# Altium schematic symbol library Battery_Management.SchLib: 122 symbols (part 1 of 2)
Pins are listed as number, name and electrical type; pins without a type are passive.

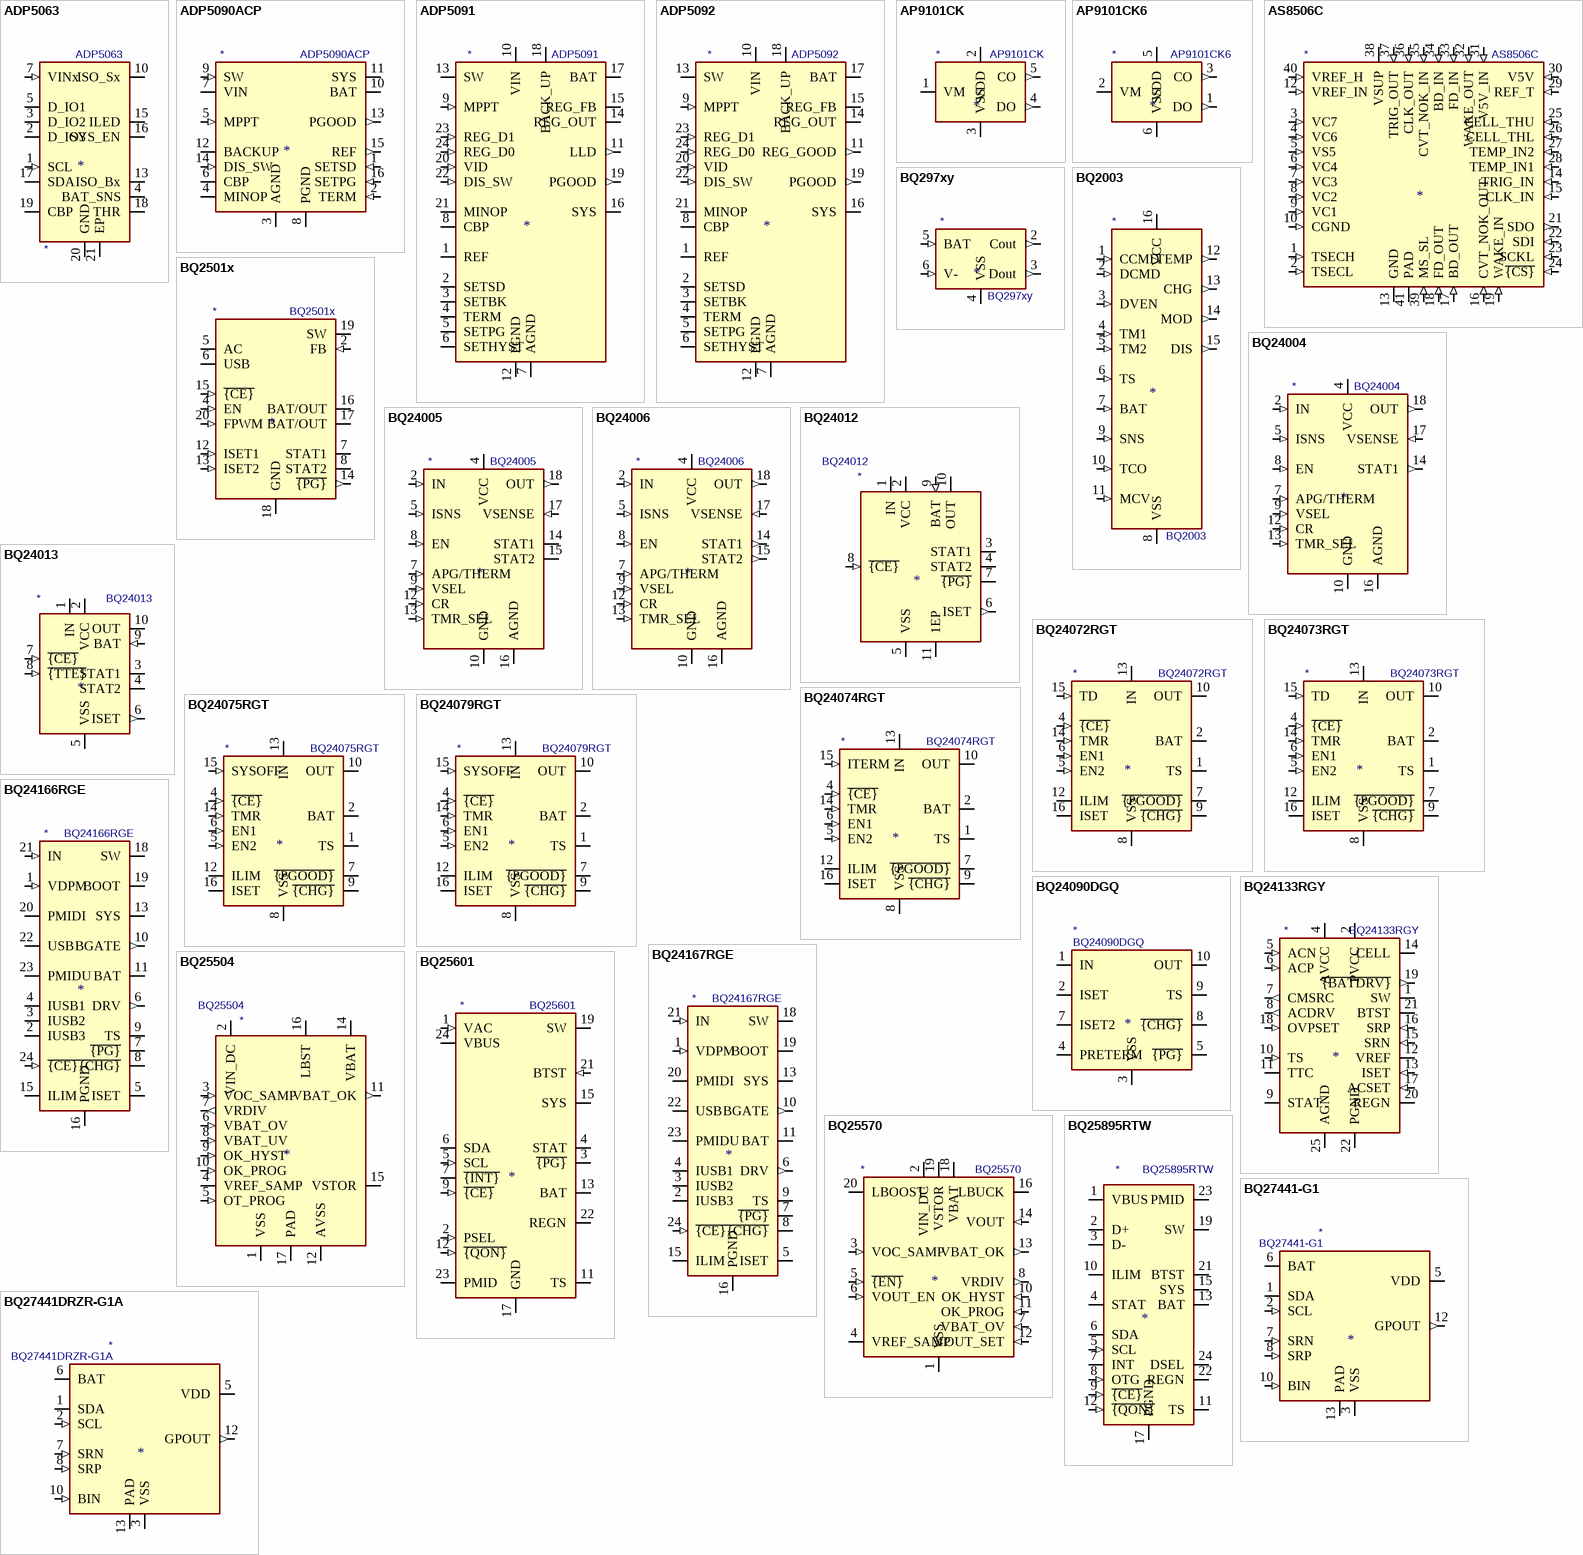
[diagram p0: symbols ADP5063 to BQ27441DRZR-G1A]

## ADP5063
designator *  value ADP5063
ki_keywords: LiFePo4 Battery USB PMIC; ki_description: Linear LiFePO4 Battery Charger with Power Path and USB Compatibility, LFCSP; ki_fp_filters: *QFN*1EP*4x4mm*P0.5mm*; Footprint: Package_DFN_QFN:QFN-20-1EP_4x4mm_P0.5mm_EP2.5x2.5mm; Supplier: https://www.analog.com/media/en/technical-documentation/data-sheets/ADP5063.pdf
footprint QFN-20-1EP_4x4mm_P0.5mm_EP2.5x2.5mm
pins: 1 SCL (in), 2 D_IO3 (io), 3 D_IO2 (io), 4 BAT_SNS, 5 D_IO1 (io), 6 VINx (in) hidden, 7 VINx (in), 8 VINx (in) hidden, 9 ISO_Sx hidden, 10 ISO_Sx (power), 11 ISO_Sx hidden, 12 ISO_Bx hidden, 13 ISO_Bx, 14 ISO_Bx hidden, 15 ILED (oc), 16 SYS_EN (oc), 17 SDA (io), 18 THR, 19 CBP, 20 GND (power), 21 EP

## ADP5090ACP
designator *  value ADP5090ACP
ki_keywords: boost regulator MPPT charge; ki_description: Ultralow Power Boost Regulator with MPPT and Charge Management, LFCSP-16; ki_fp_filters: LFCSP*1EP*3x3mm*P0.5mm*; Footprint: Package_CSP:LFCSP-16-1EP_3x3mm_P0.5mm_EP1.7x1.7mm; Supplier: https://www.analog.com/media/en/technical-documentation/data-sheets/ADP5090.pdf
footprint LFCSP-16-1EP_3x3mm_P0.5mm_EP1.7x1.7mm
pins: 1 SETSD (in), 2 TERM (in), 3 AGND (power), 4 MINOP, 5 MPPT (in), 6 CBP, 7 VIN (power), 8 PGND (power), 9 SW (in), 10 BAT (power), 11 SYS (power), 12 BACKUP, 13 PGOOD (out), 14 DIS_SW (in), 15 REF (out), 16 SETPG (in), 17 AGND hidden

## ADP5091
designator *  value ADP5091
ki_keywords: energy harvester; ki_description: Ultralow Power Energy Harvester PMUs with MPPT and Charge Management, LFCSP-24; ki_fp_filters: LFCSP*1EP*4x4mm*P0.5mm*; Footprint: Package_CSP:LFCSP-24-1EP_4x4mm_P0.5mm_EP2.3x2.3mm; Supplier: https://www.analog.com/media/en/technical-documentation/data-sheets/ADP5091-5092.pdf
footprint LFCSP-24-1EP_4x4mm_P0.5mm_EP2.3x2.3mm
pins: 1 REF, 2 SETSD, 3 SETBK, 4 TERM, 5 SETPG, 6 SETHYST, 7 AGND (power), 8 CBP, 9 MPPT (in), 10 VIN (power), 11 LLD (out), 12 PGND (power), 13 SW (power), 14 REG_OUT (power), 15 REG_FB (power), 16 SYS (power), 17 BAT (power), 18 BACK_UP (power), 19 PGOOD (out), 20 VID (in), 21 MINOP, 22 DIS_SW (in), 23 REG_D1 (in), 24 REG_D0 (in), 25 AGND hidden

## ADP5092
designator *  value ADP5092
ki_keywords: energy harvester; ki_description: Ultralow Power Energy Harvester PMUs with MPPT and Charge Management, LFCSP-24; ki_fp_filters: LFCSP*1EP*4x4mm*P0.5mm*; Footprint: Package_CSP:LFCSP-24-1EP_4x4mm_P0.5mm_EP2.3x2.3mm; Supplier: https://www.analog.com/media/en/technical-documentation/data-sheets/ADP5091-5092.pdf
footprint LFCSP-24-1EP_4x4mm_P0.5mm_EP2.3x2.3mm
pins: 1 REF, 2 SETSD, 3 SETBK, 4 TERM, 5 SETPG, 6 SETHYST, 7 AGND (power), 8 CBP, 9 MPPT (in), 10 VIN (power), 11 REG_GOOD (out), 12 PGND (power), 13 SW (power), 14 REG_OUT (power), 15 REG_FB (power), 16 SYS (power), 17 BAT (power), 18 BACK_UP (power), 19 PGOOD (out), 20 VID (in), 21 MINOP, 22 DIS_SW (in), 23 REG_D1 (in), 24 REG_D0 (in), 25 AGND hidden

## AP9101CK
designator *  value AP9101CK
ki_keywords: battery protection li-ion li-po; ki_description: Li+ Battery Protection IC for Single Cell Pack, SOT-23-5; ki_fp_filters: SOT?23*; Footprint: Package_TO_SOT_SMD:SOT-23-5; Supplier: https://www.diodes.com/assets/Datasheets/AP9101C.pdf
footprint SOT-23-5
pins: 1 VM, 2 VDD (power), 3 VSS (power), 4 DO (out), 5 CO (out)

## AP9101CK6
designator *  value AP9101CK6
ki_keywords: battery protection li-ion li-po; ki_description: Li+ Battery Protection IC for Single Cell Pack, SOT-23-6; ki_fp_filters: SOT?23*; Footprint: Package_TO_SOT_SMD:SOT-23-6; Supplier: https://www.diodes.com/assets/Datasheets/AP9101C.pdf
footprint SOT-23-6
pins: 1 DO (out), 2 VM, 3 CO (out), 4 NC (in) hidden, 5 VDD (power), 6 VSS (power)

## AS8506C
designator *  value AS8506C
ki_keywords: battery balance lithium charge afe; ki_description: Stackable cell monitor, cell balancer, 3-7 Cells, SPI Interface; ki_fp_filters: QFN*6x6mm*P0.5mm*; Footprint: Package_DFN_QFN:QFN-40-1EP_6x6mm_P0.5mm_EP4.6x4.6mm; Supplier: http://ams.com/eng/content/download/476603/1402377/252935
footprint QFN-40-1EP_6x6mm_P0.5mm_EP4.6x4.6mm
pins: 1 TSECH (in), 2 TSECL (in), 3 VC7 (in), 4 VC6 (in), 5 VS5 (in), 6 VC4 (in), 7 VC3 (in), 8 VC2 (in), 9 VC1 (in), 10 CGND (in), 11 NC (in) hidden, 12 VREF_IN (in), 13 GND (power), 14 TRIG_IN (in), 15 CLK_IN (in), 16 CVT_NOK_OUT (in), 17 BD_OUT (in), 18 FD_OUT (in), 19 WAKE_IN (in), 20 NC_T (in) hidden, 21 SDO (out), 22 SDI (in), 23 SCKL (in), 24 ~{{CS}} (in), 25 CELL_THU (in), 26 CELL_THL (in), 27 TEMP_IN2 (in), 28 TEMP_IN1 (in), 29 REF_T (in), 30 V5V (in), 31 V5V_IN (in), 32 WAKE_OUT (in), 33 FD_IN (in), 34 BD_IN (in), 35 CVT_NOK_IN (in), 36 CLK_OUT (in), 37 TRIG_OUT (in), 38 VSUP (power), 39 MS_SL (in), 40 VREF_H (in), 41 PAD (power)

## BQ297xy
designator *  value BQ297xy
ki_keywords: protection Li-Ion Li-Pol; ki_description: Voltage and Current Protection for Single-Cell Li-Ion and Li-Polymer Batteries; ki_fp_filters: WSON*1.5x1.5mm*P0.5mm*; Footprint: Package_SON:WSON-6_1.5x1.5mm_P0.5mm; Supplier: http://www.ti.com/lit/ds/symlink/bq2970.pdf
footprint WSON-6_1.5x1.5mm_P0.5mm
pins: 1 NC (in) hidden, 2 Cout (out), 3 Dout (out), 4 VSS (power), 5 BAT (in), 6 V- (in)

## BQ2003
designator *  value BQ2003
ki_keywords: battery nickel cadmium metal hydride; ki_description: Standalone switchmode NiCd/NiMH battery charger, 2-4 cells, negative dV and dT/dt termination; ki_fp_filters: DIP*W7.62mm* SOIC*7.5x10.3mm*P1.27mm*; Supplier: http://www.ti.com/lit/ds/symlink/bq2003.pdf
pins: 1 CCMD (in), 2 DCMD (in), 3 DVEN (in), 4 TM1 (in), 5 TM2 (in), 6 TS (in), 7 BAT (in), 8 VSS (power), 9 SNS (in), 10 TCO (in), 11 MCV (in), 12 TEMP (out), 13 CHG (out), 14 MOD (out), 15 DIS (out), 16 VCC (power)

## BQ2501x
designator *  value BQ2501x
ki_keywords: Li-ion buck; ki_description: 500mA Li-Ion Charger w/Integrated 150mA Synchronous Buck Converter, QFN-14; ki_fp_filters: Texas?VQFN?RHL*; Footprint: Package_DFN_QFN:Texas_VQFN-RHL-20_ThermalVias; Supplier: http://www.ti.com/lit/ds/symlink/bq25010.pdf
footprint Texas_VQFN-RHL-20_ThermalVias
pins: 1 NC (in) hidden, 2 FB (in), 3 GND hidden, 4 EN (in), 5 AC (power), 6 USB (power), 7 STAT1 (oc), 8 STAT2 (oc), 9 GND hidden, 10 NC (in) hidden, 11 NC (in) hidden, 12 ISET1 (in), 13 ISET2 (in), 14 ~{{PG}} (out), 15 ~{{CE}} (in), 16 BAT/OUT (power), 17 BAT/OUT (power), 18 GND (power), 19 SW (power), 20 FPWM (in), 21 GND hidden

## BQ24004
designator *  value BQ24004
ki_keywords: 2-Cell Li-Ion Charge; ki_description: 2-Cell Li-Ion Charge Management IC, HTSSOP-20; ki_fp_filters: HTSSOP*1EP*4.4x6.5mm*P0.65mm*; Footprint: Package_SO:HTSSOP-20-1EP_4.4x6.5mm_P0.65mm_EP3.4x6.5mm_Mask2.4x3.7mm; Supplier: http://www.ti.com/lit/ds/symlink/bq24006.pdf
footprint HTSSOP-20-1EP_4.4x6.5mm_P0.65mm_EP3.4x6.5mm_Mask2.4x3.7mm
pins: 1 N/C (in) hidden, 2 IN (in), 3 IN (in) hidden, 4 VCC (power), 5 ISNS (in), 6 N/C (in) hidden, 7 APG/THERM (in), 8 EN (in), 9 VSEL (in), 10 GND (power), 11 N/C (in) hidden, 12 CR (in), 13 TMR_SEL (in), 14 STAT1 (out), 15 N/C (in) hidden, 16 AGND (power), 17 VSENSE (in), 18 OUT (out), 19 OUT hidden, 20 N/C (in) hidden, 21 GND hidden

## BQ24005
designator *  value BQ24005
ki_keywords: 2-Cell Li-Ion Charge; ki_description: 2-Cell Li-Ion Charge Management IC, HTSSOP-20; ki_fp_filters: HTSSOP*1EP*4.4x6.5mm*P0.65mm*; Footprint: Package_SO:HTSSOP-20-1EP_4.4x6.5mm_P0.65mm_EP3.4x6.5mm_Mask2.4x3.7mm; Supplier: http://www.ti.com/lit/ds/symlink/bq24006.pdf
footprint HTSSOP-20-1EP_4.4x6.5mm_P0.65mm_EP3.4x6.5mm_Mask2.4x3.7mm
pins: 1 N/C (in) hidden, 2 IN (in), 3 IN (in) hidden, 4 VCC (power), 5 ISNS (in), 6 N/C (in) hidden, 7 APG/THERM (in), 8 EN (in), 9 VSEL (in), 10 GND (power), 11 N/C (in) hidden, 12 CR (in), 13 TMR_SEL (in), 14 STAT1 (oc), 15 STAT2 (oc), 16 AGND (power), 17 VSENSE (in), 18 OUT (out), 19 OUT hidden, 20 N/C (in) hidden, 21 GND hidden

## BQ24006
designator *  value BQ24006
ki_keywords: 2-Cell Li-Ion Charge; ki_description: 2-Cell Li-Ion Charge Management IC, HTSSOP-20; ki_fp_filters: HTSSOP*1EP*4.4x6.5mm*P0.65mm*; Footprint: Package_SO:HTSSOP-20-1EP_4.4x6.5mm_P0.65mm_EP3.4x6.5mm_Mask2.4x3.7mm; Supplier: http://www.ti.com/lit/ds/symlink/bq24006.pdf
footprint HTSSOP-20-1EP_4.4x6.5mm_P0.65mm_EP3.4x6.5mm_Mask2.4x3.7mm
pins: 1 N/C (in) hidden, 2 IN (in), 3 IN (in) hidden, 4 VCC (power), 5 ISNS (in), 6 N/C (in) hidden, 7 APG/THERM (in), 8 EN (in), 9 VSEL (in), 10 GND (power), 11 N/C (in) hidden, 12 CR (in), 13 TMR_SEL (in), 14 STAT1 (out), 15 STAT2 (out), 16 AGND (power), 17 VSENSE (in), 18 OUT (out), 19 OUT hidden, 20 N/C (in) hidden, 21 GND hidden

## BQ24012
designator *  value BQ24012
ki_keywords: Batter, Charger, Li-Ion; ki_description: Single-Chip Li-Ion Charge Management IC, DFN-10; ki_fp_filters: VSON*1EP*3x3mm*P0.5mm*; Footprint: Package_SON:VSON-10-1EP_3x3mm_P0.5mm_EP1.65x2.4mm_ThermalVias; Supplier: http://www.ti.com/lit/ds/symlink/bq24012.pdf
footprint VSON-10-1EP_3x3mm_P0.5mm_EP1.65x2.4mm_ThermalVias
pins: 1 IN (power), 2 VCC (power), 3 STAT1 (oc), 4 STAT2 (oc), 5 VSS (power), 6 ISET (out), 7 ~{{PG}} (oc), 8 ~{{CE}} (in), 9 BAT (in), 10 OUT (power), 11 1EP

## BQ24013
designator *  value BQ24013
ki_keywords: Batter Charger Li-Ion; ki_description: Single-Chip Li-Ion Charge Management IC, VSON-10; ki_fp_filters: Texas*DRC0010J*; Footprint: Package_SON:Texas_DRC0010J_ThermalVias; Supplier: http://www.ti.com/lit/ds/symlink/bq24012.pdf
footprint Texas_DRC0010J_ThermalVias
pins: 1 IN (power), 2 VCC (power), 3 STAT1 (oc), 4 STAT2 (oc), 5 VSS (power), 6 ISET (out), 7 ~{{CE}} (in), 8 ~{{TTE}} (in), 9 BAT (in), 10 OUT (power), 11 VSS hidden

## BQ24072RGT
designator *  value BQ24072RGT
ki_keywords: USB Charge; ki_description: USB-Friendly Li-Ion Battery Charger and Power-Path Management, VQFN-16; ki_fp_filters: VQFN*1EP*3x3mm*P0.5mm*; Footprint: Package_DFN_QFN:VQFN-16-1EP_3x3mm_P0.5mm_EP1.6x1.6mm; Supplier: http://www.ti.com/lit/ds/symlink/bq24072.pdf
footprint VQFN-16-1EP_3x3mm_P0.5mm_EP1.6x1.6mm
pins: 1 TS, 2 BAT (power), 3 BAT hidden, 4 ~{{CE}} (in), 5 EN2 (in), 6 EN1 (in), 7 ~{{PGOOD}} (oc), 8 VSS (power), 9 ~{{CHG}} (oc), 10 OUT (power), 11 OUT hidden, 12 ILIM, 13 IN (power), 14 TMR (in), 15 TD (in), 16 ISET, 17 VSS hidden

## BQ24073RGT
designator *  value BQ24073RGT
ki_keywords: USB Charge; ki_description: USB-Friendly Li-Ion Battery Charger and Power-Path Management, VQFN-16; ki_fp_filters: VQFN*1EP*3x3mm*P0.5mm*; Footprint: Package_DFN_QFN:VQFN-16-1EP_3x3mm_P0.5mm_EP1.6x1.6mm; Supplier: http://www.ti.com/lit/ds/symlink/bq24073.pdf
footprint VQFN-16-1EP_3x3mm_P0.5mm_EP1.6x1.6mm
pins: 1 TS, 2 BAT (power), 3 BAT hidden, 4 ~{{CE}} (in), 5 EN2 (in), 6 EN1 (in), 7 ~{{PGOOD}} (oc), 8 VSS (power), 9 ~{{CHG}} (oc), 10 OUT (power), 11 OUT hidden, 12 ILIM, 13 IN (power), 14 TMR (in), 15 TD (in), 16 ISET, 17 VSS hidden

## BQ24074RGT
designator *  value BQ24074RGT
ki_keywords: USB Charge; ki_description: USB-Friendly Li-Ion Battery Charger and Power-Path Management, VQFN-16; ki_fp_filters: VQFN*1EP*3x3mm*P0.5mm*; Footprint: Package_DFN_QFN:VQFN-16-1EP_3x3mm_P0.5mm_EP1.6x1.6mm; Supplier: http://www.ti.com/lit/ds/symlink/bq24074.pdf
footprint VQFN-16-1EP_3x3mm_P0.5mm_EP1.6x1.6mm
pins: 1 TS, 2 BAT (power), 3 BAT hidden, 4 ~{{CE}} (in), 5 EN2 (in), 6 EN1 (in), 7 ~{{PGOOD}} (oc), 8 VSS (power), 9 ~{{CHG}} (oc), 10 OUT (power), 11 OUT hidden, 12 ILIM, 13 IN (power), 14 TMR (in), 15 ITERM (in), 16 ISET, 17 VSS hidden

## BQ24075RGT
designator *  value BQ24075RGT
ki_keywords: USB Charge; ki_description: USB-Friendly Li-Ion Battery Charger and Power-Path Management, VQFN-16; ki_fp_filters: VQFN*1EP*3x3mm*P0.5mm*; Footprint: Package_DFN_QFN:VQFN-16-1EP_3x3mm_P0.5mm_EP1.6x1.6mm; Supplier: http://www.ti.com/lit/ds/symlink/bq24075.pdf
footprint VQFN-16-1EP_3x3mm_P0.5mm_EP1.6x1.6mm
pins: 1 TS, 2 BAT (power), 3 BAT hidden, 4 ~{{CE}} (in), 5 EN2 (in), 6 EN1 (in), 7 ~{{PGOOD}} (oc), 8 VSS (power), 9 ~{{CHG}} (oc), 10 OUT (power), 11 OUT hidden, 12 ILIM, 13 IN (power), 14 TMR (in), 15 SYSOFF (in), 16 ISET, 17 VSS hidden

## BQ24079RGT
designator *  value BQ24079RGT
ki_keywords: USB Charge; ki_description: USB-Friendly Li-Ion Battery Charger and Power-Path Management, VQFN-16; ki_fp_filters: VQFN*1EP*3x3mm*P0.5mm*; Footprint: Package_DFN_QFN:VQFN-16-1EP_3x3mm_P0.5mm_EP1.6x1.6mm; Supplier: http://www.ti.com/lit/ds/symlink/bq24079.pdf
footprint VQFN-16-1EP_3x3mm_P0.5mm_EP1.6x1.6mm
pins: 1 TS, 2 BAT (power), 3 BAT hidden, 4 ~{{CE}} (in), 5 EN2 (in), 6 EN1 (in), 7 ~{{PGOOD}} (oc), 8 VSS (power), 9 ~{{CHG}} (oc), 10 OUT (power), 11 OUT hidden, 12 ILIM, 13 IN (power), 14 TMR (in), 15 SYSOFF (in), 16 ISET, 17 VSS hidden

## BQ24090DGQ
designator *  value BQ24090DGQ
ki_keywords: battery charger singlecell li-ion li-poly, 1A; ki_description: 1A, Single-Input, SingleCell Li-Ion and Li-Pol BatteryCharger, HVSSOP-10; ki_fp_filters: HVSSOP*1EP*3x3mm*P0.5mm*; Footprint: Package_SO:HVSSOP-10-1EP_3x3mm_P0.5mm_EP1.57x1.88mm_ThermalVias; Supplier: http://www.ti.com/lit/ds/symlink/bq24090.pdf
footprint HVSSOP-10-1EP_3x3mm_P0.5mm_EP1.57x1.88mm_ThermalVias
pins: 1 IN (power), 2 ISET, 3 VSS (power), 4 PRETERM, 5 ~{{PG}} (oc), 6 NC (in) hidden, 7 ISET2, 8 ~{{CHG}} (oc), 9 TS, 10 OUT (power), 11 VSS hidden

## BQ24133RGY
designator *  value BQ24133RGY
ki_keywords: Battery, Charger, Li-Ion, Li-Poly; ki_description: Synchronous switched mode Li-Ion and Li-Polymer battery charger, integrated MOSFETs and power path selector, Texas R-PVQFN-N24; ki_fp_filters: Texas*RGY*R*PVQFN*N*; Footprint: Package_DFN_QFN:Texas_RGY_R-PVQFN-N24_EP2.05x3.1mm; Supplier: http://www.ti.com/lit/ds/symlink/bq24133.pdf
footprint Texas_RGY_R-PVQFN-N24_EP2.05x3.1mm
pins: 1 SW (power), 2 PVCC (power), 3 PVCC hidden, 4 AVCC (power), 5 ACN (in), 6 ACP (in), 7 CMSRC (out), 8 ACDRV (out), 9 STAT (oc), 10 TS (in), 11 TTC, 12 VREF (power), 13 ISET (in), 14 CELL, 15 SRN (in), 16 SRP (in), 17 ACSET (in), 18 OVPSET (in), 19 ~{{BATDRV}} (out), 20 REGN, 21 BTST, 22 PGND (power), 23 PGND hidden, 24 SW hidden, 25 AGND (power)

## BQ24166RGE
designator *  value BQ24166RGE
ki_keywords: Battery, Charger, Li-Ion, Li-Poly; ki_description: High efficiency switched mode Li-Ion and Li-Polymer battery charger, integrated MOSFETs, power path selector and standard temperature sensing, Texas R-RGE0024H; ki_fp_filters: Texas*RGE0024H*; Footprint: Package_DFN_QFN:Texas_RGE0024H_EP2.7x2.7mm; Supplier: https://www.ti.com/lit/ds/symlink/bq24166.pdf
footprint Texas_RGE0024H_EP2.7x2.7mm
pins: 1 VDPM (in), 2 IUSB3, 3 IUSB2, 4 IUSB1, 5 ISET, 6 DRV (out), 7 ~{{PG}} (oc), 8 ~{{CHG}} (oc), 9 TS, 10 BGATE (out), 11 BAT, 12 BAT hidden, 13 SYS (power), 14 SYS hidden, 15 ILIM, 16 PGND (power), 17 PGND hidden, 18 SW, 19 BOOT, 20 PMIDI, 21 IN (in), 22 USB (power), 23 PMIDU, 24 ~{{CE}} (in), 25 PGND hidden

## BQ24167RGE
designator *  value BQ24167RGE
ki_keywords: Battery, Charger, Li-Ion, Li-Poly; ki_description: High efficiency switched mode Li-Ion and Li-Polymer battery charger, integrated MOSFETs, power path selector and JEITA compatible temperature sensing, Texas R-RGE0024H; ki_fp_filters: Texas*RGE0024H*; Footprint: Package_DFN_QFN:Texas_RGE0024H_EP2.7x2.7mm; Supplier: https://www.ti.com/lit/ds/symlink/bq24166.pdf
footprint Texas_RGE0024H_EP2.7x2.7mm
pins: 1 VDPM (in), 2 IUSB3, 3 IUSB2, 4 IUSB1, 5 ISET, 6 DRV (out), 7 ~{{PG}} (oc), 8 ~{{CHG}} (oc), 9 TS, 10 BGATE (out), 11 BAT, 12 BAT hidden, 13 SYS (power), 14 SYS hidden, 15 ILIM, 16 PGND (power), 17 PGND hidden, 18 SW, 19 BOOT, 20 PMIDI, 21 IN (in), 22 USB (power), 23 PMIDU, 24 ~{{CE}} (in), 25 PGND hidden

## BQ25504
designator *  value BQ25504
ki_keywords: energy harvesting li-ion battery solar TEG; ki_description: Energy Harvesting Boost Converter with Battery Management, VQFN-16; ki_fp_filters: *QFN*3x3mm*P0.5mm*; Footprint: Package_DFN_QFN:QFN-16-1EP_3x3mm_P0.5mm_EP1.8x1.8mm; Supplier: http://www.ti.com/lit/ds/symlink/bq25504.pdf
footprint QFN-16-1EP_3x3mm_P0.5mm_EP1.8x1.8mm
pins: 1 VSS (power), 2 VIN_DC (power), 3 VOC_SAMP (in), 4 VREF_SAMP (io), 5 OT_PROG (in), 6 VBAT_OV (in), 7 VRDIV (out), 8 VBAT_UV (in), 9 OK_HYST (in), 10 OK_PROG (in), 11 VBAT_OK (out), 12 AVSS (power), 13 VSS hidden, 14 VBAT (power), 15 VSTOR (io), 16 LBST (io), 17 PAD

## BQ25570
designator *  value BQ25570
ki_keywords: harvester solar TEG charger li-on buck; ki_description: Nano Power Boost Charger and Buck Converter for Energy Harvester Powered Applications, QFN-20; ki_fp_filters: QFN*1EP*3.5x3.5mm*P0.5mm*; Footprint: Package_DFN_QFN:QFN-20-1EP_3.5x3.5mm_P0.5mm_EP2x2mm; Supplier: http://www.ti.com/lit/ds/symlink/bq25570.pdf
footprint QFN-20-1EP_3.5x3.5mm_P0.5mm_EP2x2mm
pins: 1 VSS (power), 2 VIN_DC (power), 3 VOC_SAMP (in), 4 VREF_SAMP, 5 ~{{EN}} (in), 6 VOUT_EN (in), 7 VBAT_OV (in), 8 VRDIV (out), 9 VSS hidden, 10 OK_HYST (in), 11 OK_PROG (in), 12 VOUT_SET (in), 13 VBAT_OK (out), 14 VOUT (in), 15 VSS hidden, 16 LBUCK, 17 VSS hidden, 18 VBAT (power), 19 VSTOR (power), 20 LBOOST, 21 VSS hidden

## BQ25601
designator *  value BQ25601
ki_keywords: LiPO charger; ki_description: I2C Controlled 3A Single-Cell Battery Charger for High Input Voltage and Narrow Voltage DC Power Path Management, WQFN-32; ki_fp_filters: Texas*S?PWQFN?N*EP*; Footprint: Package_DFN_QFN:Texas_S-PWQFN-N24_EP2.7x2.7mm_ThermalVias; Supplier: http://www.ti.com/lit/ds/symlink/bq25601.pdf
footprint Texas_S-PWQFN-N24_EP2.7x2.7mm_ThermalVias
pins: 1 VAC (in), 2 PSEL (in), 3 ~{{PG}} (oc), 4 STAT (oc), 5 SCL (in), 6 SDA (io), 7 ~{{INT}} (oc), 8 NC (in) hidden, 9 ~{{CE}} (in), 10 NC (in) hidden, 11 TS, 12 ~{{QON}} (in), 13 BAT (power), 14 BAT hidden, 15 SYS, 16 SYS hidden, 17 GND (power), 18 GND hidden, 19 SW, 20 SW hidden, 21 BTST (in), 22 REGN, 23 PMID, 24 VBUS (power), 25 GND hidden

## BQ25895RTW
designator *  value BQ25895RTW
ki_keywords: Battery Charger and Power Path Management; ki_description: Controlled Single Cell 5A Fast Charger with MaxCharge, WQFN-24; ki_fp_filters: Texas*S?PWQFN?N*EP*; Footprint: Package_DFN_QFN:Texas_S-PWQFN-N24_EP2.7x2.7mm_ThermalVias; Supplier: http://www.ti.com/lit/ds/symlink/bq25895.pdf
footprint Texas_S-PWQFN-N24_EP2.7x2.7mm_ThermalVias
pins: 1 VBUS (power), 2 D+ (io), 3 D- (io), 4 STAT (oc), 5 SCL (in), 6 SDA (io), 7 INT (oc), 8 OTG (in), 9 ~{{CE}} (in), 10 ILIM, 11 TS, 12 ~{{QON}} (in), 13 BAT, 14 BAT hidden, 15 SYS, 16 SYS hidden, 17 PGND (power), 18 PGND hidden, 19 SW (power), 20 SW hidden, 21 BTST, 22 REGN, 23 PMID (power), 24 DSEL (oc), 25 PGND hidden

## BQ27441-G1
designator *  value BQ27441-G1
ki_keywords: Fuel Gauge; ki_description: System Side Li Ion/Polymer Fuel Gauge, PDSON-12; ki_fp_filters: *PDSO*N12*; Footprint: Package_SON:Texas_S-PDSO-N12; Supplier: http://www.ti.com/lit/ds/symlink/bq27441-g1.pdf
footprint Texas_S-PDSO-N12
pins: 1 SDA (io), 2 SCL (in), 3 VSS (power), 4 NC (in) hidden, 5 VDD (power), 6 BAT (power), 7 SRN (in), 8 SRP (in), 9 NC (in) hidden, 10 BIN (in), 11 NC (in) hidden, 12 GPOUT (out), 13 PAD (power)

## BQ27441DRZR-G1A
designator *  value BQ27441DRZR-G1A
ki_keywords: Fuel Gauge; ki_description: System Side Li Ion/Polymer Fuel Gauge, 4.2V, PDSON-12; ki_fp_filters: *PDSO*N12*; Footprint: Package_SON:Texas_S-PDSO-N12; Supplier: http://www.ti.com/lit/ds/symlink/bq27441-g1.pdf
footprint Texas_S-PDSO-N12
pins: 1 SDA (io), 2 SCL (in), 3 VSS (power), 4 NC (in) hidden, 5 VDD (power), 6 BAT (power), 7 SRN (in), 8 SRP (in), 9 NC (in) hidden, 10 BIN (in), 11 NC (in) hidden, 12 GPOUT (out), 13 PAD (power)

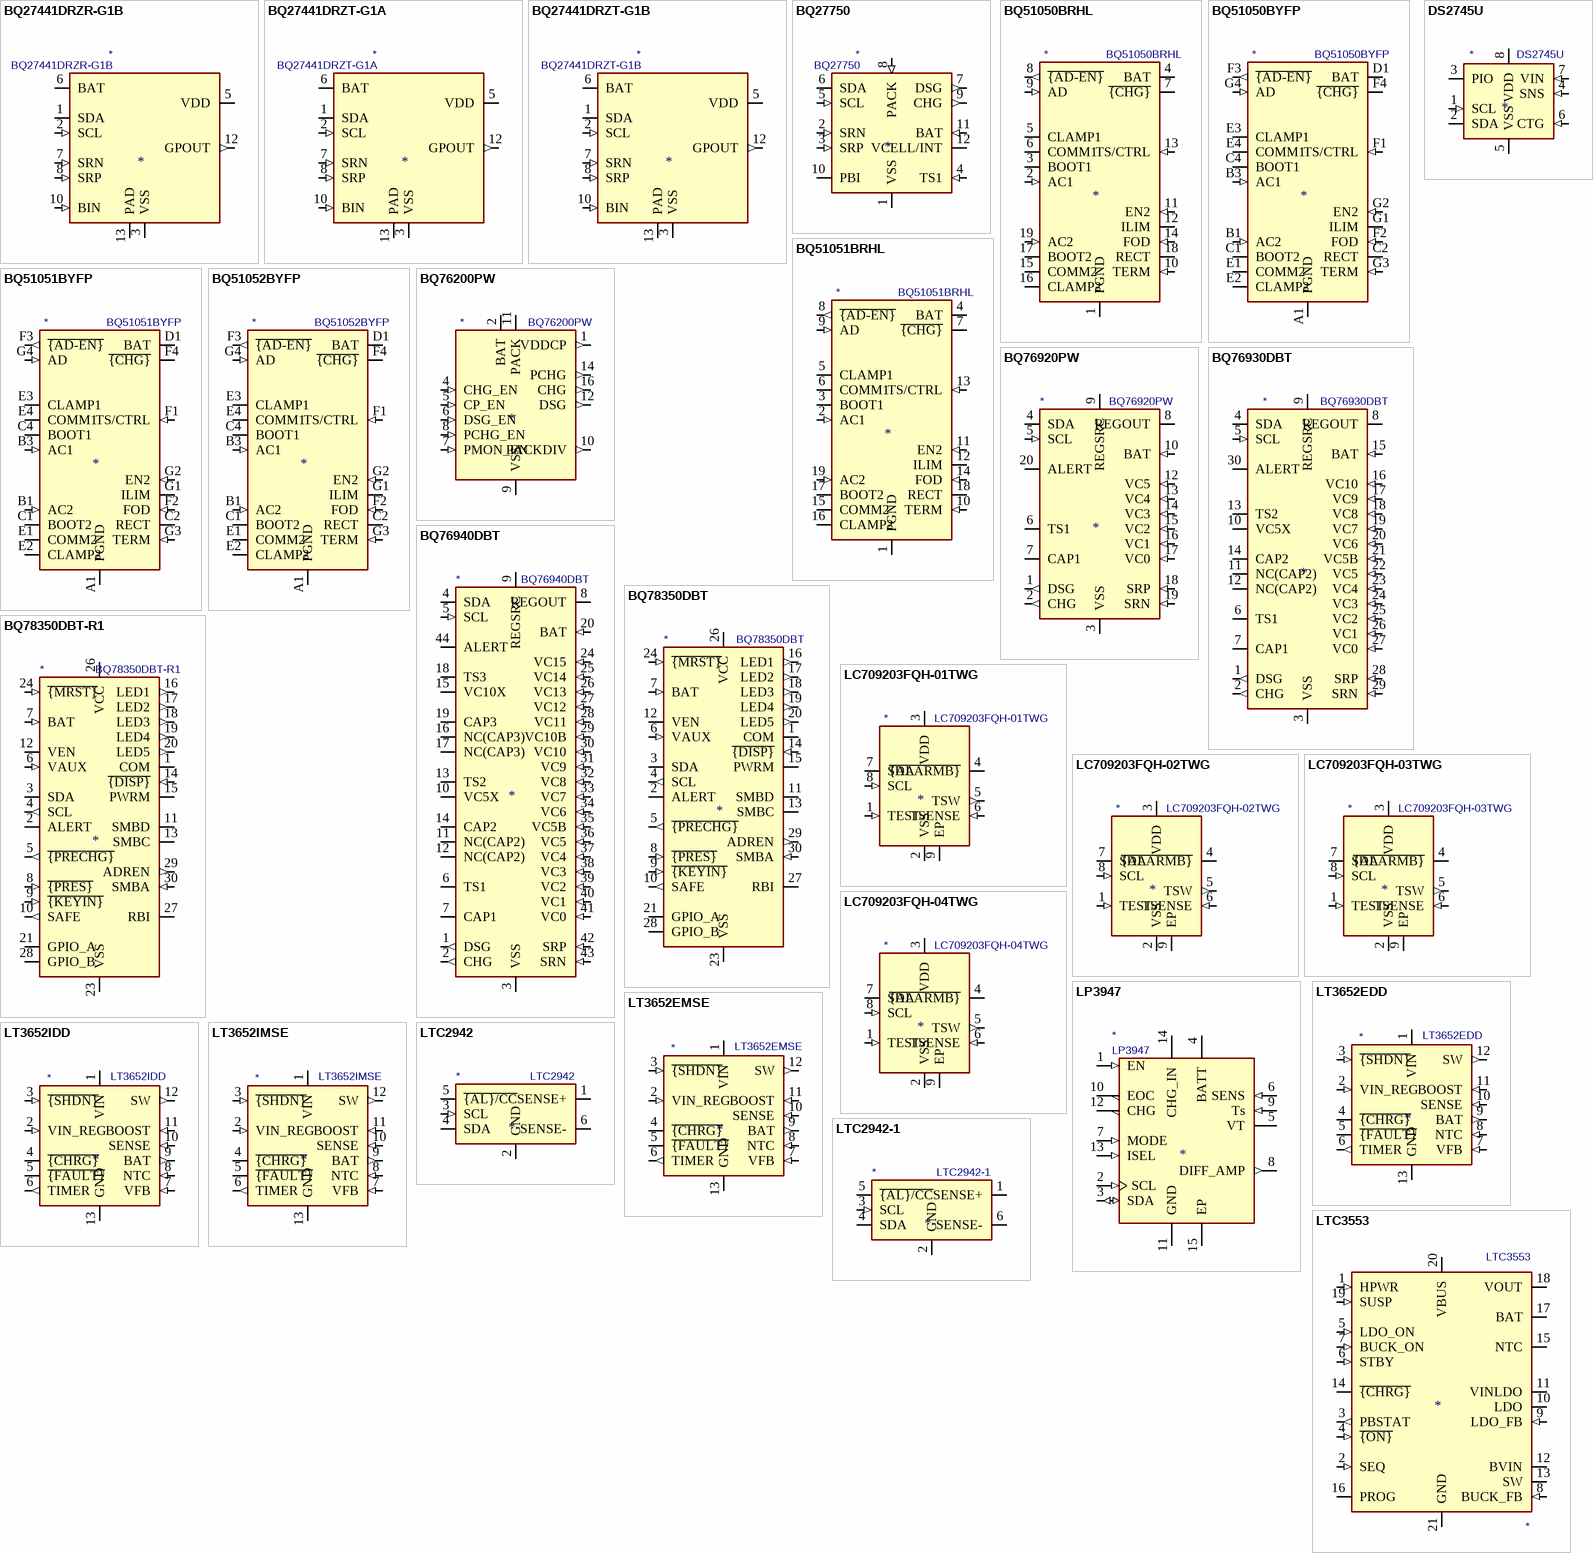
[diagram p1: symbols BQ27441DRZR-G1B to LTC3553]

## BQ27441DRZR-G1B
designator *  value BQ27441DRZR-G1B
ki_keywords: Fuel Gauge; ki_description: System Side Li Ion/Polymer Fuel Gauge, 4.30-4.35V, PDSON-12; ki_fp_filters: *PDSO*N12*; Footprint: Package_SON:Texas_S-PDSO-N12; Supplier: http://www.ti.com/lit/ds/symlink/bq27441-g1.pdf
footprint Texas_S-PDSO-N12
pins: 1 SDA (io), 2 SCL (in), 3 VSS (power), 4 NC (in) hidden, 5 VDD (power), 6 BAT (power), 7 SRN (in), 8 SRP (in), 9 NC (in) hidden, 10 BIN (in), 11 NC (in) hidden, 12 GPOUT (out), 13 PAD (power)

## BQ27441DRZT-G1A
designator *  value BQ27441DRZT-G1A
ki_keywords: Fuel Gauge; ki_description: System Side Li Ion/Polymer Fuel Gauge, 4.2V, PDSON-12; ki_fp_filters: *PDSO*N12*; Footprint: Package_SON:Texas_S-PDSO-N12; Supplier: http://www.ti.com/lit/ds/symlink/bq27441-g1.pdf
footprint Texas_S-PDSO-N12
pins: 1 SDA (io), 2 SCL (in), 3 VSS (power), 4 NC (in) hidden, 5 VDD (power), 6 BAT (power), 7 SRN (in), 8 SRP (in), 9 NC (in) hidden, 10 BIN (in), 11 NC (in) hidden, 12 GPOUT (out), 13 PAD (power)

## BQ27441DRZT-G1B
designator *  value BQ27441DRZT-G1B
ki_keywords: Fuel Gauge; ki_description: System Side Li Ion/Polymer Fuel Gauge, 4.30-4.35V, PDSON-12; ki_fp_filters: *PDSO*N12*; Footprint: Package_SON:Texas_S-PDSO-N12; Supplier: http://www.ti.com/lit/ds/symlink/bq27441-g1.pdf
footprint Texas_S-PDSO-N12
pins: 1 SDA (io), 2 SCL (in), 3 VSS (power), 4 NC (in) hidden, 5 VDD (power), 6 BAT (power), 7 SRN (in), 8 SRP (in), 9 NC (in) hidden, 10 BIN (in), 11 NC (in) hidden, 12 GPOUT (out), 13 PAD (power)

## BQ27750
designator *  value BQ27750
ki_keywords: Fuel Gauge; ki_description: System Side Li Ion/Polymer Fuel Gauge, VSON-12; ki_fp_filters: Texas*PDSO*N12*; Footprint: Package_SON:Texas_S-PDSO-N12; Supplier: http://www.ti.com/lit/ds/symlink/bq27750.pdf
footprint Texas_S-PDSO-N12
pins: 1 VSS (power), 2 SRN (in), 3 SRP (in), 4 TS1 (in), 5 SCL (in), 6 SDA (io), 7 DSG (out), 8 PACK (in), 9 CHG (out), 10 PBI, 11 BAT (in), 12 VCELL/INT (io), 13 VSS hidden

## BQ51050BRHL
designator *  value BQ51050BRHL
ki_keywords: Qi Wireless Power Receiver Battery Charger 4.2V; ki_description: Qi v1.2, Wireless Power Receiver and Battery Charger, Vout 4.2V, VQFN-20; ki_fp_filters: Texas?VQFN?RHL*; Footprint: Package_DFN_QFN:Texas_VQFN-RHL-20; Supplier: http://www.ti.com/lit/ds/symlink/bq51050b.pdf
footprint Texas_VQFN-RHL-20
pins: 1 PGND (power), 2 AC1 (in), 3 BOOT1, 4 BAT (power), 5 CLAMP1 (oc), 6 COMM1 (oc), 7 ~{{CHG}} (oc), 8 ~{{AD-EN}} (out), 9 AD (in), 10 TERM (in), 11 EN2 (in), 12 ILIM, 13 TS/CTRL (in), 14 FOD (in), 15 COMM2 (oc), 16 CLAMP2 (oc), 17 BOOT2, 18 RECT, 19 AC2 (in), 20 PGND hidden, 21 PGND hidden

## BQ51050BYFP
designator *  value BQ51050BYFP
ki_keywords: Qi Wireless Power Receiver Battery Charger 4.2V; ki_description: Qi v1.2, Wireless Power Receiver and Battery Charger, Vout 4.2V, DSBGA-28; ki_fp_filters: Texas?DSBGA*1.9x3.0mm*P0.4mm*; Footprint: Package_BGA:Texas_DSBGA-28_1.9x3.0mm_Layout4x7_P0.4mm; Supplier: http://www.ti.com/lit/ds/symlink/bq51050b.pdf
footprint Texas_DSBGA-28_1.9x3.0mm_Layout4x7_P0.4mm
pins: A1 PGND (power), A2 PGND hidden, A3 PGND hidden, A4 PGND hidden, B1 AC2 (in), B2 AC2 (in) hidden, B3 AC1 (in), B4 AC1 (in) hidden, C1 BOOT2, C2 RECT, C3 RECT hidden, C4 BOOT1, D1 BAT (power), D2 BAT hidden, D3 BAT hidden, D4 BAT hidden, E1 COMM2 (oc), E2 CLAMP2 (oc), E3 CLAMP1 (oc), E4 COMM1 (oc), F1 TS/CTRL (in), F2 FOD (in), F3 ~{{AD-EN}} (out), F4 ~{{CHG}} (oc), G1 ILIM, G2 EN2 (in), G3 TERM (in), G4 AD (in)

## BQ51051BRHL
designator *  value BQ51051BRHL
ki_keywords: Qi Wireless Power Receiver Battery Charger 4.35V; ki_description: Qi v1.2, Wireless Power Receiver and Battery Charger, Vout 4.35V, VQFN-20; ki_fp_filters: Texas?VQFN?RHL*; Footprint: Package_DFN_QFN:Texas_VQFN-RHL-20; Supplier: http://www.ti.com/lit/ds/symlink/bq51051b.pdf
footprint Texas_VQFN-RHL-20
pins: 1 PGND (power), 2 AC1 (in), 3 BOOT1, 4 BAT (power), 5 CLAMP1 (oc), 6 COMM1 (oc), 7 ~{{CHG}} (oc), 8 ~{{AD-EN}} (out), 9 AD (in), 10 TERM (in), 11 EN2 (in), 12 ILIM, 13 TS/CTRL (in), 14 FOD (in), 15 COMM2 (oc), 16 CLAMP2 (oc), 17 BOOT2, 18 RECT, 19 AC2 (in), 20 PGND hidden, 21 PGND hidden

## BQ51051BYFP
designator *  value BQ51051BYFP
ki_keywords: Qi Wireless Power Receiver Battery Charger 4.35V; ki_description: Qi v1.2, Wireless Power Receiver and Battery Charger, Vout 4.35V, DSBGA-28; ki_fp_filters: Texas?DSBGA*1.9x3.0mm*P0.4mm*; Footprint: Package_BGA:Texas_DSBGA-28_1.9x3.0mm_Layout4x7_P0.4mm; Supplier: http://www.ti.com/lit/ds/symlink/bq51051b.pdf
footprint Texas_DSBGA-28_1.9x3.0mm_Layout4x7_P0.4mm
pins: A1 PGND (power), A2 PGND hidden, A3 PGND hidden, A4 PGND hidden, B1 AC2 (in), B2 AC2 (in) hidden, B3 AC1 (in), B4 AC1 (in) hidden, C1 BOOT2, C2 RECT, C3 RECT hidden, C4 BOOT1, D1 BAT (power), D2 BAT hidden, D3 BAT hidden, D4 BAT hidden, E1 COMM2 (oc), E2 CLAMP2 (oc), E3 CLAMP1 (oc), E4 COMM1 (oc), F1 TS/CTRL (in), F2 FOD (in), F3 ~{{AD-EN}} (out), F4 ~{{CHG}} (oc), G1 ILIM, G2 EN2 (in), G3 TERM (in), G4 AD (in)

## BQ51052BYFP
designator *  value BQ51052BYFP
ki_keywords: Qi Wireless Power Receiver Battery Charger 4.40V; ki_description: Qi v1.2, Wireless Power Receiver and Battery Charger, Vout 4.40V, DSBGA-28; ki_fp_filters: Texas?DSBGA*1.9x3.0mm*P0.4mm*; Footprint: Package_BGA:Texas_DSBGA-28_1.9x3.0mm_Layout4x7_P0.4mm; Supplier: http://www.ti.com/lit/ds/symlink/bq51052b.pdf
footprint Texas_DSBGA-28_1.9x3.0mm_Layout4x7_P0.4mm
pins: A1 PGND (power), A2 PGND hidden, A3 PGND hidden, A4 PGND hidden, B1 AC2 (in), B2 AC2 (in) hidden, B3 AC1 (in), B4 AC1 (in) hidden, C1 BOOT2, C2 RECT, C3 RECT hidden, C4 BOOT1, D1 BAT (power), D2 BAT hidden, D3 BAT hidden, D4 BAT hidden, E1 COMM2 (oc), E2 CLAMP2 (oc), E3 CLAMP1 (oc), E4 COMM1 (oc), F1 TS/CTRL (in), F2 FOD (in), F3 ~{{AD-EN}} (out), F4 ~{{CHG}} (oc), G1 ILIM, G2 EN2 (in), G3 TERM (in), G4 AD (in)

## BQ76200PW
designator *  value BQ76200PW
ki_keywords: Battery Pack Charge/Discharge High-Side; ki_description: High Voltage Battery Pack Front-End Charge/Discharge High-Side NFET Driver, TSSOP-16; ki_fp_filters: TSSOP*4.4x5mm*P0.65mm*; Footprint: Package_SO:TSSOP-16_4.4x5mm_P0.65mm; Supplier: http://www.ti.com/lit/ds/symlink/bq76200.pdf
footprint TSSOP-16_4.4x5mm_P0.65mm
pins: 1 VDDCP (out), 2 BAT (power), 3 NC (in) hidden, 4 CHG_EN (in), 5 CP_EN (in), 6 DSG_EN (in), 7 PMON_EN (in), 8 PCHG_EN (in), 9 VSS (power), 10 PACKDIV (out), 11 PACK (power), 12 DSG (out), 13 NC (in) hidden, 14 PCHG (out), 15 NC (in) hidden, 16 CHG (out)

## BQ76920PW
designator *  value BQ76920PW
ki_keywords: lithium battery balance charge afe; ki_description: Lithium battery monitor, 3-5 cells, integrated balancing, I2C interface, TSSOP-20; ki_fp_filters: TSSOP*4.4x6.5mm*P0.65mm*; Footprint: Package_SO:TSSOP-20_4.4x6.5mm_P0.65mm; Supplier: http://www.ti.com/lit/ds/symlink/bq76920.pdf
footprint TSSOP-20_4.4x6.5mm_P0.65mm
pins: 1 DSG (out), 2 CHG (out), 3 VSS (power), 4 SDA (io), 5 SCL (in), 6 TS1, 7 CAP1, 8 REGOUT (power), 9 REGSRC (power), 10 BAT (in), 11 NC (in) hidden, 12 VC5 (in), 13 VC4 (in), 14 VC3 (in), 15 VC2 (in), 16 VC1 (in), 17 VC0 (in), 18 SRP (in), 19 SRN (in), 20 ALERT (io)

## BQ76930DBT
designator *  value BQ76930DBT
ki_keywords: lithium battery balance charge afe; ki_description: Lithium battery monitor, 6-10 cells, integrated balancing, I2C interface, TSSOP-30; ki_fp_filters: TSSOP*4.4x7.8mm*P0.5mm*; Footprint: Package_SO:TSSOP-30_4.4x7.8mm_P0.5mm; Supplier: http://www.ti.com/lit/ds/symlink/bq76930.pdf
footprint TSSOP-30_4.4x7.8mm_P0.5mm
pins: 1 DSG (out), 2 CHG (out), 3 VSS (power), 4 SDA (io), 5 SCL (in), 6 TS1, 7 CAP1, 8 REGOUT (power), 9 REGSRC (power), 10 VC5X, 11 NC(CAP2), 12 NC(CAP2), 13 TS2, 14 CAP2, 15 BAT (in), 16 VC10 (in), 17 VC9 (in), 18 VC8 (in), 19 VC7 (in), 20 VC6 (in), 21 VC5B (in), 22 VC5 (in), 23 VC4 (in), 24 VC3 (in), 25 VC2 (in), 26 VC1 (in), 27 VC0 (in), 28 SRP (in), 29 SRN (in), 30 ALERT (io)

## BQ76940DBT
designator *  value BQ76940DBT
ki_keywords: lithium battery balance charge afe; ki_description: Lithium battery monitor, 9-15 cells, integrated balancing, I2C interface, TSSOP-44; ki_fp_filters: TSSOP*4.4x11.2mm*P0.5mm*; Footprint: Package_SO:TSSOP-44_4.4x11.2mm_P0.5mm; Supplier: http://www.ti.com/lit/ds/symlink/bq76940.pdf
footprint TSSOP-44_4.4x11.2mm_P0.5mm
pins: 1 DSG (out), 2 CHG (out), 3 VSS (power), 4 SDA (io), 5 SCL (in), 6 TS1, 7 CAP1, 8 REGOUT (power), 9 REGSRC (power), 10 VC5X, 11 NC(CAP2), 12 NC(CAP2), 13 TS2, 14 CAP2, 15 VC10X, 16 NC(CAP3), 17 NC(CAP3), 18 TS3, 19 CAP3, 20 BAT (in), 21 NC (in) hidden, 22 NC (in) hidden, 23 NC (in) hidden, 24 VC15 (in), 25 VC14 (in), 26 VC13 (in), 27 VC12 (in), 28 VC11 (in), 29 VC10B (in), 30 VC10 (in), 31 VC9 (in), 32 VC8 (in), 33 VC7 (in), 34 VC6 (in), 35 VC5B (in), 36 VC5 (in), 37 VC4 (in), 38 VC3 (in), 39 VC2 (in), 40 VC1 (in), 41 VC0 (in), 42 SRP (in), 43 SRN (in), 44 ALERT (io)

## BQ78350DBT
designator *  value BQ78350DBT
ki_keywords: battery, management, Li-Ion, Gauge, controller; ki_description: Lithium battery fuel gauge, battery management controller for BQ769x0, TSSOP-30; ki_fp_filters: TSSOP*4.4x7.8mm*P0.5mm*; Footprint: Package_SO:TSSOP-30_4.4x7.8mm_P0.5mm; Supplier: http://www.ti.com/lit/ds/symlink/bq78350.pdf
footprint TSSOP-30_4.4x7.8mm_P0.5mm
pins: 1 COM (oc), 2 ALERT (io), 3 SDA (io), 4 SCL (out), 5 ~{{PRECHG}} (out), 6 VAUX (in), 7 BAT (in), 8 ~{{PRES}} (in), 9 ~{{KEYIN}} (in), 10 SAFE (out), 11 SMBD (io), 12 VEN (oc), 13 SMBC (io), 14 ~{{DISP}} (in), 15 PWRM (oc), 16 LED1 (out), 17 LED2 (out), 18 LED3 (out), 19 LED4 (out), 20 LED5 (out), 21 GPIO_A (io), 22 VSS hidden, 23 VSS (power), 24 ~{{MRST}} (in), 25 VSS hidden, 26 VCC (power), 27 RBI, 28 GPIO_B (io), 29 ADREN (out), 30 SMBA (in)

## BQ78350DBT-R1
designator *  value BQ78350DBT-R1
ki_keywords: battery, management, Li-Ion, gauge, controller; ki_description: Lithium battery fuel gauge, battery management controller for BQ769x0, TSSOP-30; ki_fp_filters: TSSOP*4.4x7.8mm*P0.5mm*; Footprint: Package_SO:TSSOP-30_4.4x7.8mm_P0.5mm; Supplier: http://www.ti.com/lit/ds/symlink/bq78350-r1.pdf
footprint TSSOP-30_4.4x7.8mm_P0.5mm
pins: 1 COM (oc), 2 ALERT (io), 3 SDA (io), 4 SCL (out), 5 ~{{PRECHG}} (out), 6 VAUX (in), 7 BAT (in), 8 ~{{PRES}} (in), 9 ~{{KEYIN}} (in), 10 SAFE (out), 11 SMBD (io), 12 VEN (oc), 13 SMBC (io), 14 ~{{DISP}} (in), 15 PWRM (oc), 16 LED1 (out), 17 LED2 (out), 18 LED3 (out), 19 LED4 (out), 20 LED5 (out), 21 GPIO_A (io), 22 VSS hidden, 23 VSS (power), 24 ~{{MRST}} (in), 25 VSS hidden, 26 VCC (power), 27 RBI, 28 GPIO_B (io), 29 ADREN (out), 30 SMBA (in)

## DS2745U
designator *  value DS2745U
ki_keywords: Current-flow, voltage and temperature  measurement to support batterycapacity monitoring, 2.5V to 4.5V VDD, -40 to +85 degree Celsius, TSSOP-8; ki_fp_filters: TSSOP*3x3mm*P0.65mm*; Footprint: Package_SO:TSSOP-8_3x3mm_P0.65mm; Supplier: https://datasheets.maximintegrated.com/en/ds/DS2745.pdf; ki_description: Current-flow, voltage and temperature  measurement to support batterycapacity monitoring, 2.5V to 4.5V VDD, -40 to +85 degree Celsius, TSSOP-8
footprint TSSOP-8_3x3mm_P0.65mm
pins: 1 SCL (in), 2 SDA (io), 3 PIO (oc), 4 SNS (in), 5 VSS (power), 6 CTG (in), 7 VIN (in), 8 VDD (power)

## LC709203FQH-01TWG
designator *  value LC709203FQH-01TWG
ki_keywords: Battery gauge I2C; ki_description: Single LiPo battery fuel gauge, I2C, type 01, WDFN-8; ki_fp_filters: WDFN*1EP*4x3mm*P0.65mm*; Footprint: Package_DFN_QFN:WDFN-8-1EP_4x3mm_P0.65mm_EP2.4x1.8mm; Supplier: https://www.onsemi.com/pub/Collateral/LC709203F-D.PDF
footprint WDFN-8-1EP_4x3mm_P0.65mm_EP2.4x1.8mm
pins: 1 TEST (in), 2 VSS (power), 3 VDD (power), 4 ~{{ALARMB}} (oc), 5 TSW (out), 6 TSENSE (in), 7 SDA (io), 8 SCL (in), 9 EP

## LC709203FQH-02TWG
designator *  value LC709203FQH-02TWG
ki_keywords: Battery gauge I2C; ki_description: Single LiPo battery fuel gauge, I2C, type 02, WDFN-8; ki_fp_filters: WDFN*1EP*4x3mm*P0.65mm*; Footprint: Package_DFN_QFN:WDFN-8-1EP_4x3mm_P0.65mm_EP2.4x1.8mm; Supplier: https://www.onsemi.com/pub/Collateral/LC709203F-D.PDF
footprint WDFN-8-1EP_4x3mm_P0.65mm_EP2.4x1.8mm
pins: 1 TEST (in), 2 VSS (power), 3 VDD (power), 4 ~{{ALARMB}} (oc), 5 TSW (out), 6 TSENSE (in), 7 SDA (io), 8 SCL (in), 9 EP

## LC709203FQH-03TWG
designator *  value LC709203FQH-03TWG
ki_keywords: Battery gauge I2C; ki_description: Single LiPo battery fuel gauge, I2C, type 03, WDFN-8; ki_fp_filters: WDFN*1EP*4x3mm*P0.65mm*; Footprint: Package_DFN_QFN:WDFN-8-1EP_4x3mm_P0.65mm_EP2.4x1.8mm; Supplier: https://www.onsemi.com/pub/Collateral/LC709203F-D.PDF
footprint WDFN-8-1EP_4x3mm_P0.65mm_EP2.4x1.8mm
pins: 1 TEST (in), 2 VSS (power), 3 VDD (power), 4 ~{{ALARMB}} (oc), 5 TSW (out), 6 TSENSE (in), 7 SDA (io), 8 SCL (in), 9 EP

## LC709203FQH-04TWG
designator *  value LC709203FQH-04TWG
ki_keywords: Battery gauge I2C; ki_description: Single LiPo battery fuel gauge, I2C, type 04, WDFN-8; ki_fp_filters: WDFN*1EP*4x3mm*P0.65mm*; Footprint: Package_DFN_QFN:WDFN-8-1EP_4x3mm_P0.65mm_EP2.4x1.8mm; Supplier: https://www.onsemi.com/pub/Collateral/LC709203F-D.PDF
footprint WDFN-8-1EP_4x3mm_P0.65mm_EP2.4x1.8mm
pins: 1 TEST (in), 2 VSS (power), 3 VDD (power), 4 ~{{ALARMB}} (oc), 5 TSW (out), 6 TSENSE (in), 7 SDA (io), 8 SCL (in), 9 EP

## LP3947
designator *  value LP3947
ki_keywords: li-ion battery charger usb; ki_description: Single Cell Li-Ion LDO Battery Charger IC, Up to 1A, Support USB charging scheme; ki_fp_filters: WSON*4.0x4.0mm*P0.5mm*; Footprint: Package_SON:WSON-14-1EP_4.0x4.0mm_P0.5mm_EP2.6x2.6mm; Supplier: http://www.ti.com/lit/ds/symlink/lp3947.pdf
footprint WSON-14-1EP_4.0x4.0mm_P0.5mm_EP2.6x2.6mm
pins: 1 EN (in), 2 SCL (in), 3 SDA (io), 4 BATT (power), 5 VT (power), 6 SENS (in), 7 MODE (in), 8 DIFF_AMP (out), 9 Ts (in), 10 EOC (oc), 11 GND (power), 12 CHG (oc), 13 ISEL (in), 14 CHG_IN (power), 15 EP (power)

## LT3652EDD
designator *  value LT3652EDD
ki_keywords: Step-down  battery charger, Lithium Phosphate ( LiFePO4), Lead (Pb), Lithium+ (Li+) , 4.95V to 32V VDD, -40 to +125 degree Celsius, DFN-12; ki_fp_filters: DFN*1EP*3x3mm*P0.45mm*; Footprint: Package_DFN_QFN:DFN-12-1EP_3x3mm_P0.45mm_EP1.66x2.38mm; Supplier: https://www.analog.com/media/en/technical-documentation/data-sheets/3652fe.pdf; ki_description: Step-down  battery charger, Lithium Phosphate ( LiFePO4), Lead (Pb), Lithium+ (Li+) , 4.95V to 32V VDD, -40 to +125 degree Celsius, DFN-12
footprint DFN-12-1EP_3x3mm_P0.45mm_EP1.66x2.38mm
pins: 1 VIN (power), 2 VIN_REG (in), 3 ~{{SHDN}} (in), 4 ~{{CHRG}} (oc), 5 ~{{FAULT}} (oc), 6 TIMER (out), 7 VFB (in), 8 NTC (in), 9 BAT (out), 10 SENSE (in), 11 BOOST (in), 12 SW (out), 13 GND (power)

## LT3652EMSE
designator *  value LT3652EMSE
ki_keywords: Step-down  battery charger, Lithium Phosphate ( LiFePO4), Lead (Pb), Lithium+ (Li+) , 4.95V to 32V VDD, -40 to +125 degree Celsius, MSOP-12; ki_fp_filters: MSOP*1EP*3x4mm*P0.65mm*; Footprint: Package_SO:MSOP-12-1EP_3x4mm_P0.65mm_EP1.65x2.85mm; Supplier: https://www.analog.com/media/en/technical-documentation/data-sheets/3652fe.pdf; ki_description: Step-down  battery charger, Lithium Phosphate ( LiFePO4), Lead (Pb), Lithium+ (Li+) , 4.95V to 32V VDD, -40 to +125 degree Celsius, MSOP-12
footprint MSOP-12-1EP_3x4mm_P0.65mm_EP1.65x2.85mm
pins: 1 VIN (power), 2 VIN_REG (in), 3 ~{{SHDN}} (in), 4 ~{{CHRG}} (oc), 5 ~{{FAULT}} (oc), 6 TIMER (out), 7 VFB (in), 8 NTC (in), 9 BAT (out), 10 SENSE (in), 11 BOOST (in), 12 SW (out), 13 GND (power)

## LT3652IDD
designator *  value LT3652IDD
ki_keywords: Step-down  battery charger, Lithium Phosphate ( LiFePO4), Lead (Pb), Lithium+ (Li+) , 4.95V to 32V VDD, -40 to +125 degree Celsius, DFN-12; ki_fp_filters: DFN*1EP*3x3mm*P0.45mm*; Footprint: Package_DFN_QFN:DFN-12-1EP_3x3mm_P0.45mm_EP1.66x2.38mm; Supplier: https://www.analog.com/media/en/technical-documentation/data-sheets/3652fe.pdf; ki_description: Step-down  battery charger, Lithium Phosphate ( LiFePO4), Lead (Pb), Lithium+ (Li+) , 4.95V to 32V VDD, -40 to +125 degree Celsius, DFN-12
footprint DFN-12-1EP_3x3mm_P0.45mm_EP1.66x2.38mm
pins: 1 VIN (power), 2 VIN_REG (in), 3 ~{{SHDN}} (in), 4 ~{{CHRG}} (oc), 5 ~{{FAULT}} (oc), 6 TIMER (out), 7 VFB (in), 8 NTC (in), 9 BAT (out), 10 SENSE (in), 11 BOOST (in), 12 SW (out), 13 GND (power)

## LT3652IMSE
designator *  value LT3652IMSE
ki_keywords: Step-down  battery charger, Lithium Phosphate ( LiFePO4), Lead (Pb), Lithium+ (Li+) , 4.95V to 32V VDD, -40 to +125 degree Celsius, MSOP-12; ki_fp_filters: MSOP*1EP*3x4mm*P0.65mm*; Footprint: Package_SO:MSOP-12-1EP_3x4mm_P0.65mm_EP1.65x2.85mm; Supplier: https://www.analog.com/media/en/technical-documentation/data-sheets/3652fe.pdf; ki_description: Step-down  battery charger, Lithium Phosphate ( LiFePO4), Lead (Pb), Lithium+ (Li+) , 4.95V to 32V VDD, -40 to +125 degree Celsius, MSOP-12
footprint MSOP-12-1EP_3x4mm_P0.65mm_EP1.65x2.85mm
pins: 1 VIN (power), 2 VIN_REG (in), 3 ~{{SHDN}} (in), 4 ~{{CHRG}} (oc), 5 ~{{FAULT}} (oc), 6 TIMER (out), 7 VFB (in), 8 NTC (in), 9 BAT (out), 10 SENSE (in), 11 BOOST (in), 12 SW (out), 13 GND (power)

## LTC2942
designator *  value LTC2942
ki_keywords: Fuel gauge coulomb counter I2C; ki_description: Battery Gas Gauge with Temperature, Voltage Measurement, DFN-6; ki_fp_filters: DFN*1EP*3x2mm*P0.5mm*; Footprint: Package_DFN_QFN:DFN-6-1EP_3x2mm_P0.5mm_EP1.65x1.35mm; Supplier: https://www.analog.com/media/en/technical-documentation/data-sheets/2942fa.pdf
footprint DFN-6-1EP_3x2mm_P0.5mm_EP1.65x1.35mm
pins: 1 SENSE+, 2 GND (power), 3 SCL (in), 4 SDA (io), 5 ~{{AL}/CC} (io), 6 SENSE-

## LTC2942-1
designator *  value LTC2942-1
ki_keywords: Fuel gauge coulomb counter I2C; ki_description: 1A Battery Gas Gauge with Internal Sense Resistor and Temperature/Voltage Measurement, DFN-6; ki_fp_filters: DFN*1EP*3x2mm*P0.5mm*; Footprint: Package_DFN_QFN:DFN-6-1EP_3x2mm_P0.5mm_EP1.65x1.35mm; Supplier: https://www.analog.com/media/en/technical-documentation/data-sheets/29421f.pdf
footprint DFN-6-1EP_3x2mm_P0.5mm_EP1.65x1.35mm
pins: 1 SENSE+, 2 GND (power), 3 SCL (in), 4 SDA (io), 5 ~{{AL}/CC} (io), 6 SENSE-

## LTC3553
designator *  value LTC3553
ki_keywords: USB PMIC; ki_description: Micropower USB Power Manager With Li-Ion Charger, LDO and Buck Regulator, 4.2V float, QFN-20; ki_fp_filters: *QFN*3x3mm*P0.4mm*; Footprint: Package_DFN_QFN:QFN-20-1EP_3x3mm_P0.4mm_EP1.65x1.65mm; Supplier: https://www.analog.com/media/en/technical-documentation/data-sheets/3553fc.pdf
footprint QFN-20-1EP_3x3mm_P0.4mm_EP1.65x1.65mm
pins: 1 HPWR (in), 2 SEQ (in), 3 PBSTAT (out), 4 ~{{ON}} (in), 5 LDO_ON (in), 6 STBY (in), 7 BUCK_ON (in), 8 BUCK_FB (in), 9 LDO_FB (in), 10 LDO (power), 11 VINLDO (power), 12 BVIN (power), 13 SW (power), 14 ~{{CHRG}} (oc), 15 NTC, 16 PROG, 17 BAT (power), 18 VOUT (power), 19 SUSP (in), 20 VBUS (power), 21 GND (power)

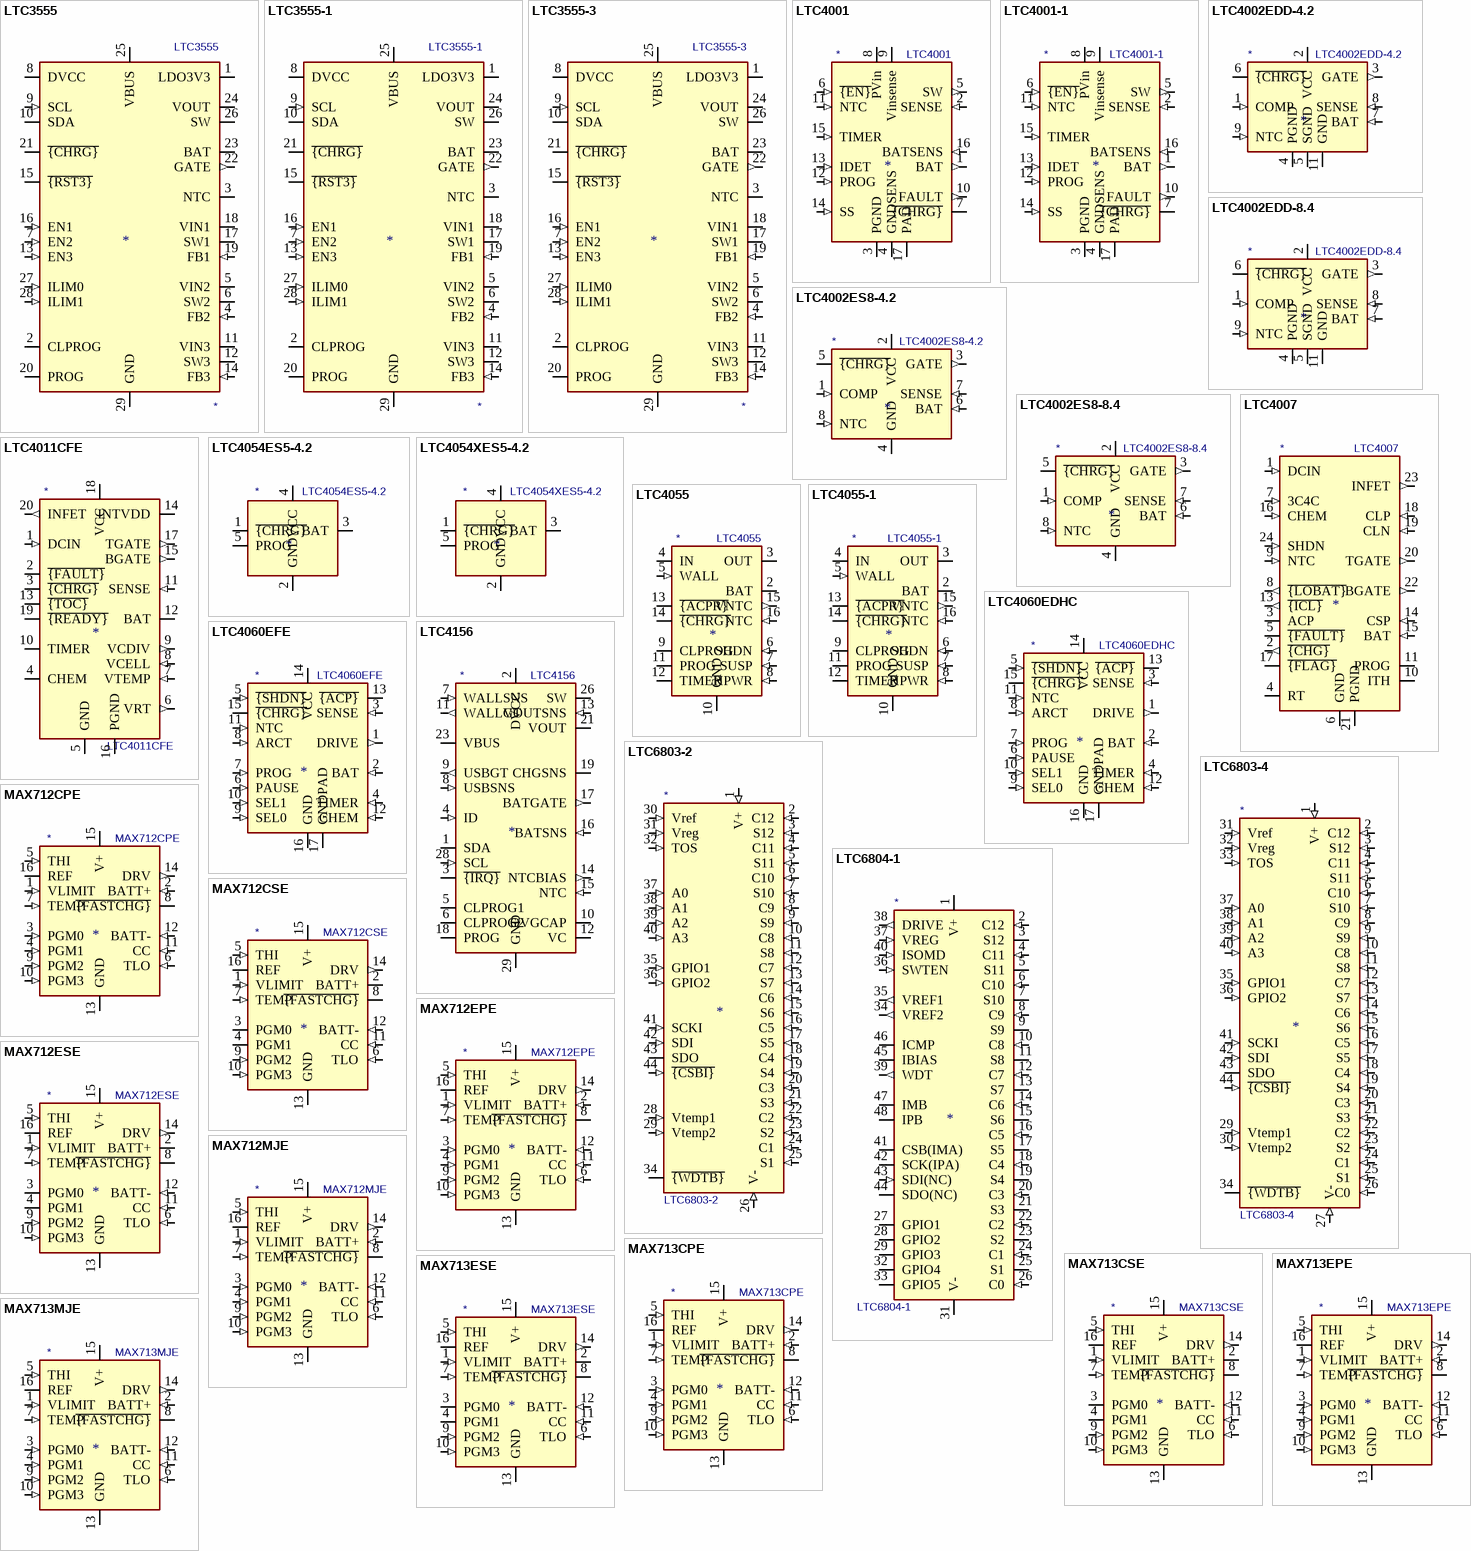
[diagram p2: symbols LTC3555 to MAX713MJE]

## LTC3555
designator *  value LTC3555
ki_keywords: USB PMIC; ki_description: High Efficiency USB Power Manager + Triple Step-Down DC/DC, 4.2V float, QFN-28; ki_fp_filters: QFN*4x5mm*P0.5mm*; Footprint: Package_DFN_QFN:QFN-28-1EP_4x5mm_P0.5mm_EP2.65x3.65mm; Supplier: https://www.analog.com/media/en/technical-documentation/data-sheets/3555fe.pdf
footprint QFN-28-1EP_4x5mm_P0.5mm_EP2.65x3.65mm
pins: 1 LDO3V3 (power), 2 CLPROG, 3 NTC, 4 FB2 (in), 5 VIN2 (power), 6 SW2 (power), 7 EN2 (in), 8 DVCC (power), 9 SCL (in), 10 SDA (io), 11 VIN3 (power), 12 SW3 (power), 13 EN3 (in), 14 FB3 (in), 15 ~{{RST3}} (oc), 16 EN1 (in), 17 SW1 (power), 18 VIN1 (power), 19 FB1 (in), 20 PROG, 21 ~{{CHRG}} (oc), 22 GATE (out), 23 BAT (power), 24 VOUT (power), 25 VBUS (power), 26 SW (power), 27 ILIM0 (in), 28 ILIM1 (in), 29 GND (power)

## LTC3555-1
designator *  value LTC3555-1
ki_keywords: USB PMIC; ki_description: High Efficiency USB Power Manager + Triple Step-Down DC/DC, instant-on power, 4.2V float, QFN-28; ki_fp_filters: QFN*4x5mm*P0.5mm*; Footprint: Package_DFN_QFN:QFN-28-1EP_4x5mm_P0.5mm_EP2.65x3.65mm; Supplier: https://www.analog.com/media/en/technical-documentation/data-sheets/3555fe.pdf
footprint QFN-28-1EP_4x5mm_P0.5mm_EP2.65x3.65mm
pins: 1 LDO3V3 (power), 2 CLPROG, 3 NTC, 4 FB2 (in), 5 VIN2 (power), 6 SW2 (power), 7 EN2 (in), 8 DVCC (power), 9 SCL (in), 10 SDA (io), 11 VIN3 (power), 12 SW3 (power), 13 EN3 (in), 14 FB3 (in), 15 ~{{RST3}} (oc), 16 EN1 (in), 17 SW1 (power), 18 VIN1 (power), 19 FB1 (in), 20 PROG, 21 ~{{CHRG}} (oc), 22 GATE (out), 23 BAT (power), 24 VOUT (power), 25 VBUS (power), 26 SW (power), 27 ILIM0 (in), 28 ILIM1 (in), 29 GND (power)

## LTC3555-3
designator *  value LTC3555-3
ki_keywords: USB PMIC; ki_description: High Efficiency USB Power Manager + Triple Step-Down DC/DC, instant-on power, 4.1V float, QFN-28; ki_fp_filters: QFN*4x5mm*P0.5mm*; Footprint: Package_DFN_QFN:QFN-28-1EP_4x5mm_P0.5mm_EP2.65x3.65mm; Supplier: https://www.analog.com/media/en/technical-documentation/data-sheets/3555fe.pdf
footprint QFN-28-1EP_4x5mm_P0.5mm_EP2.65x3.65mm
pins: 1 LDO3V3 (power), 2 CLPROG, 3 NTC, 4 FB2 (in), 5 VIN2 (power), 6 SW2 (power), 7 EN2 (in), 8 DVCC (power), 9 SCL (in), 10 SDA (io), 11 VIN3 (power), 12 SW3 (power), 13 EN3 (in), 14 FB3 (in), 15 ~{{RST3}} (oc), 16 EN1 (in), 17 SW1 (power), 18 VIN1 (power), 19 FB1 (in), 20 PROG, 21 ~{{CHRG}} (oc), 22 GATE (out), 23 BAT (power), 24 VOUT (power), 25 VBUS (power), 26 SW (power), 27 ILIM0 (in), 28 ILIM1 (in), 29 GND (power)

## LTC4001
designator *  value LTC4001
ki_keywords: Li-Ion charger; ki_description: Single cell (4.2V) programmable synchronous buck Li-Ion charger, 2A, 5.5V input; ki_fp_filters: QFN*1EP*4x4mm*P0.65mm*; Footprint: Package_DFN_QFN:QFN-16-1EP_4x4mm_P0.65mm_EP2.15x2.15mm; Supplier: https://www.analog.com/media/en/technical-documentation/data-sheets/4001f.pdf
footprint QFN-16-1EP_4x4mm_P0.65mm_EP2.15x2.15mm
pins: 1 BAT (out), 2 SENSE (in), 3 PGND (power), 4 GNDSENS (power), 5 SW (out), 6 ~{{EN}} (in), 7 ~{{CHRG}} (oc), 8 PVin (power), 9 Vinsense (power), 10 FAULT (out), 11 NTC (in), 12 PROG (in), 13 IDET (in), 14 SS (in), 15 TIMER (in), 16 BATSENS (in), 17 PAD (power)

## LTC4001-1
designator *  value LTC4001-1
ki_keywords: Li-Ion Charger; ki_description: Single cell (4.1V) programmable synchronous buck Li-Ion charger, 2A, 5.5V input; ki_fp_filters: QFN*1EP*4x4mm*P0.65mm*; Footprint: Package_DFN_QFN:QFN-16-1EP_4x4mm_P0.65mm_EP2.15x2.15mm; Supplier: https://www.analog.com/media/en/technical-documentation/data-sheets/40011fa.pdf
footprint QFN-16-1EP_4x4mm_P0.65mm_EP2.15x2.15mm
pins: 1 BAT (out), 2 SENSE (in), 3 PGND (power), 4 GNDSENS (power), 5 SW (out), 6 ~{{EN}} (in), 7 ~{{CHRG}} (oc), 8 PVin (power), 9 Vinsense (power), 10 FAULT (out), 11 NTC (in), 12 PROG (in), 13 IDET (in), 14 SS (in), 15 TIMER (in), 16 BATSENS (in), 17 PAD (power)

## LTC4002EDD-4.2
designator *  value LTC4002EDD-4.2
ki_keywords: lithium li-ion battery charger; ki_description: Standalone Li-Ion Switch Mode Battery Charger, 4.7-22V input, single cell, DFN-10; ki_fp_filters: DFN*10*1EP*3x3mm*P0.5mm*; Footprint: Package_DFN_QFN:DFN-10-1EP_3x3mm_P0.5mm_EP1.55x2.48mm; Supplier: https://www.analog.com/media/en/technical-documentation/data-sheets/4002f.pdf
footprint DFN-10-1EP_3x3mm_P0.5mm_EP1.55x2.48mm
pins: 1 COMP (in), 2 VCC (power), 3 GATE (out), 4 PGND (power), 5 SGND (power), 6 ~{{CHRG}} (oc), 7 BAT (in), 8 SENSE (in), 9 NTC (in), 10 NC (in) hidden, 11 GND (power)

## LTC4002EDD-8.4
designator *  value LTC4002EDD-8.4
ki_keywords: lithium li-ion battery charger; ki_description: Standalone Li-Ion Switch Mode Battery Charger, 8.9-22V input, double cell, DFN-10; ki_fp_filters: DFN*10*1EP*3x3mm*P0.5mm*; Footprint: Package_DFN_QFN:DFN-10-1EP_3x3mm_P0.5mm_EP1.55x2.48mm; Supplier: https://www.analog.com/media/en/technical-documentation/data-sheets/4002f.pdf
footprint DFN-10-1EP_3x3mm_P0.5mm_EP1.55x2.48mm
pins: 1 COMP (in), 2 VCC (power), 3 GATE (out), 4 PGND (power), 5 SGND (power), 6 ~{{CHRG}} (oc), 7 BAT (in), 8 SENSE (in), 9 NTC (in), 10 NC (in) hidden, 11 GND (power)

## LTC4002ES8-4.2
designator *  value LTC4002ES8-4.2
ki_keywords: lithium li-ion battery charger; ki_description: Standalone Li-Ion Switch Mode Battery Charger, 4.7-22V input, single cell, SOIC-8; ki_fp_filters: SOIC*8*3.9x4.9mm*P1.27mm*; Footprint: Package_SO:SOIC-8_3.9x4.9mm_P1.27mm; Supplier: https://www.analog.com/media/en/technical-documentation/data-sheets/4002f.pdf
footprint SOIC-8_3.9x4.9mm_P1.27mm
pins: 1 COMP (in), 2 VCC (power), 3 GATE (out), 4 GND (power), 5 ~{{CHRG}} (oc), 6 BAT (in), 7 SENSE (in), 8 NTC (in)

## LTC4002ES8-8.4
designator *  value LTC4002ES8-8.4
ki_keywords: lithium li-ion battery charger; ki_description: Standalone Li-Ion Switch Mode Battery Charger, 8.9-22V input, double cell, SOIC-8; ki_fp_filters: SOIC*8*3.9x4.9mm*P1.27mm*; Footprint: Package_SO:SOIC-8_3.9x4.9mm_P1.27mm; Supplier: https://www.analog.com/media/en/technical-documentation/data-sheets/4002f.pdf
footprint SOIC-8_3.9x4.9mm_P1.27mm
pins: 1 COMP (in), 2 VCC (power), 3 GATE (out), 4 GND (power), 5 ~{{CHRG}} (oc), 6 BAT (in), 7 SENSE (in), 8 NTC (in)

## LTC4007
designator *  value LTC4007
ki_keywords: lithium ion polymer li-po battery; ki_description: 4A high efficiency standalone Li-ion battery charger, SSOP24; ki_fp_filters: SSOP*3.9x8.7mm*P0.635mm*; Footprint: Package_SO:SSOP-24_3.9x8.7mm_P0.635mm; Supplier: https://www.analog.com/media/en/technical-documentation/data-sheets/4007fc.pdf
footprint SSOP-24_3.9x8.7mm_P0.635mm
pins: 1 DCIN (in), 2 ~{{CHG}} (out), 3 ACP (oc), 4 RT, 5 ~{{FAULT}} (oc), 6 GND (power), 7 3C4C (in), 8 ~{{LOBAT}} (out), 9 NTC (in), 10 ITH, 11 PROG (io), 12 NC (in) hidden, 13 ~{{ICL}} (out), 14 CSP (in), 15 BAT (in), 16 CHEM (in), 17 ~{{FLAG}} (oc), 18 CLP (in), 19 CLN (in), 20 TGATE (out), 21 PGND (power), 22 BGATE (out), 23 INFET (out), 24 SHDN (in)

## LTC4011CFE
designator *  value LTC4011CFE
ki_keywords: NiMH nickel battery charger; ki_description: High efficiency standalone NiMH battery charger, HTSSOP-20; ki_fp_filters: HTSSOP*1EP*4.4x6.5mm*P0.65mm*; Footprint: Package_SO:HTSSOP-20-1EP_4.4x6.5mm_P0.65mm_EP2.74x3.86mm; Supplier: https://www.analog.com/media/en/technical-documentation/data-sheets/4011fb.pdf
footprint HTSSOP-20-1EP_4.4x6.5mm_P0.65mm_EP2.74x3.86mm
pins: 1 DCIN (in), 2 ~{{FAULT}} (oc), 3 ~{{CHRG}} (oc), 4 CHEM, 5 GND (power), 6 VRT (out), 7 VTEMP (in), 8 VCELL (in), 9 VCDIV (out), 10 TIMER, 11 SENSE (in), 12 BAT (power), 13 ~{{TOC}} (oc), 14 INTVDD (power), 15 BGATE (out), 16 PGND (power), 17 TGATE (out), 18 VCC (power), 19 ~{{READY}} (oc), 20 INFET (out), 21 GND hidden

## LTC4054ES5-4.2
designator *  value LTC4054ES5-4.2
ki_keywords: Constant-current constant-voltage linear charger single cell lithium-ion battery; ki_description: Constant-current/constant-voltage linear charger for single cell lithium-ion batteries with 2.9V Trickle Charge, 4.5V to 6.5V VDD, -40 to +85 degree Celsius, TSOT-23-5; ki_fp_filters: TSOT?23*; Footprint: Package_TO_SOT_SMD:TSOT-23-5; Supplier: https://www.analog.com/media/en/technical-documentation/data-sheets/405442xf.pdf
footprint TSOT-23-5
pins: 1 ~{{CHRG}} (oc), 2 GND (power), 3 BAT (power), 4 VCC (power), 5 PROG (io)

## LTC4054XES5-4.2
designator *  value LTC4054XES5-4.2
ki_keywords: Constant-current constant-voltage linear charger single cell lithium-ion battery; ki_description: Constant-current/constant-voltage linear charger for single cell lithium-ion batteries no Trickle Charge, 4.5V to 6.5V VDD, -40 to +85 degree Celsius, TSOT-23-5; ki_fp_filters: TSOT?23*; Footprint: Package_TO_SOT_SMD:TSOT-23-5; Supplier: https://www.analog.com/media/en/technical-documentation/data-sheets/405442xf.pdf
footprint TSOT-23-5
pins: 1 ~{{CHRG}} (oc), 2 GND (power), 3 BAT (power), 4 VCC (power), 5 PROG (io)

## LTC4055
designator *  value LTC4055
ki_keywords: charger PMIC Liion USB; ki_description: USB Power Controller and Li-Ion Charger (4.2V Float Voltage); ki_fp_filters: QFN*1EP*4x4mm*P0.65mm*; Footprint: Package_DFN_QFN:QFN-16-1EP_4x4mm_P0.65mm_EP2.15x2.15mm; Supplier: https://www.analog.com/media/en/technical-documentation/data-sheets/4055fb.pdf
footprint QFN-16-1EP_4x4mm_P0.65mm_EP2.15x2.15mm
pins: 1 IN hidden, 2 BAT, 3 OUT, 4 IN (power), 5 WALL (in), 6 SHDN (in), 7 SUSP (in), 8 HPWR (in), 9 CLPROG, 10 GND (power), 11 PROG, 12 TIMER, 13 ~{{ACPR}} (oc), 14 ~{{CHRG}} (oc), 15 VNTC (out), 16 NTC (in), 17 GND hidden

## LTC4055-1
designator *  value LTC4055-1
ki_keywords: charger PMIC Liion USB; ki_description: USB Power Controller and Li-Ion Charger (4.1V Float Voltage); ki_fp_filters: QFN*1EP*4x4mm*P0.65mm*; Footprint: Package_DFN_QFN:QFN-16-1EP_4x4mm_P0.65mm_EP2.15x2.15mm; Supplier: https://www.analog.com/media/en/technical-documentation/data-sheets/4055fb.pdf
footprint QFN-16-1EP_4x4mm_P0.65mm_EP2.15x2.15mm
pins: 1 IN hidden, 2 BAT, 3 OUT, 4 IN (power), 5 WALL (in), 6 SHDN (in), 7 SUSP (in), 8 HPWR (in), 9 CLPROG, 10 GND (power), 11 PROG, 12 TIMER, 13 ~{{ACPR}} (oc), 14 ~{{CHRG}} (oc), 15 VNTC (out), 16 NTC (in), 17 GND hidden

## LTC4060EDHC
designator *  value LTC4060EDHC
ki_keywords: Complete fast charging system for 2, 3 or 4 series NiMH or NiCd batteries, 0.4 to 2A, 4.5 to 10V VDD, -40 to +85 degree Celcisus, DFN-16; ki_description: Complete fast charging system for 2, 3 or 4 series  NiMH or NiCd batteries, 0.4 to 2A, 4.5 to 10V VDD, -40 to +85 degree Celcisus, DFN-16; ki_fp_filters: DFN*1EP*3x5mm*P0.5mm*; Footprint: Package_DFN_QFN:DFN-16-1EP_3x5mm_P0.5mm_EP1.66x4.4mm; Supplier: https://www.analog.com/media/en/technical-documentation/data-sheets/405442xf.pdf
footprint DFN-16-1EP_3x5mm_P0.5mm_EP1.66x4.4mm
pins: 1 DRIVE (out), 2 BAT (in), 3 SENSE (in), 4 TIMER (in), 5 ~{{SHDN}} (in), 6 PAUSE (in), 7 PROG (in), 8 ARCT (in), 9 SEL0 (in), 10 SEL1 (in), 11 NTC (in), 12 CHEM (in), 13 ~{{ACP}} (oc), 14 VCC (power), 15 ~{{CHRG}} (oc), 16 GND (power), 17 GNDPAD (power)